# Altium footprint library 0533980667.PcbLib: 1 footprints
Each footprint in its own frame and in the unit in brackets; x right, y up, seen from the top. Pads: shape width x height; smd on the part's side, far side on the other; paste and mask are expansions set on the pad; w line width, h text height; cw(c..) or ccw(c..) is an arc to the next point about the centre after c.
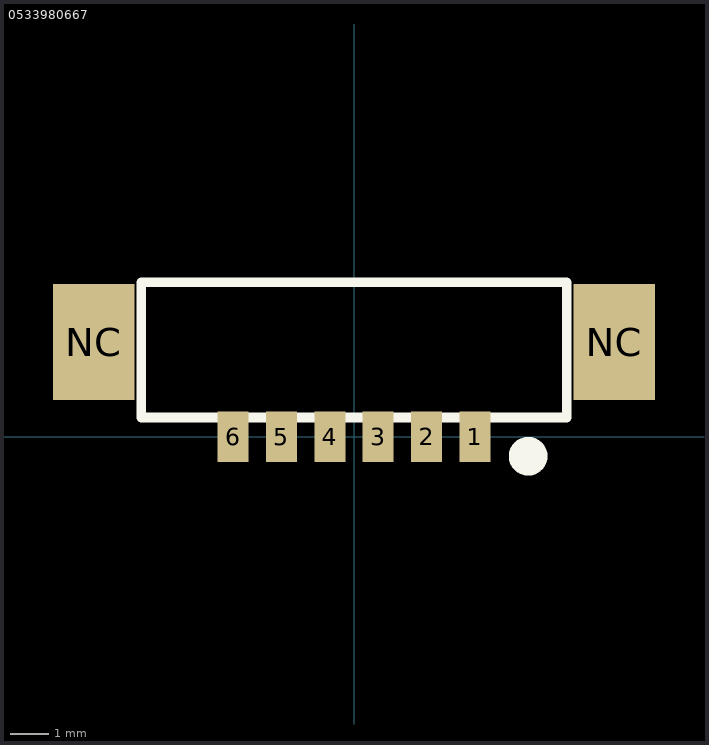
[diagram p0: the footprint, top view; thin cyan lines are the x and y axes]

## 0533980667 [mm]
pads (8):
  rect 0.8x1.3 smd: 1(3.125,0) 2(1.875,0) 3(0.625,0) 4(-0.625,0) 5(-1.875,0) 6(-3.125,0)
  rect 2.1x3 smd: NC(-6.725,2.45) NC(6.725,2.45)
Top Overlay:
  circle w0.5: c4.5,-0.5 r0.25
  lines w0.25: -5.5,0.5 -5.5,4 5.5,4 5.5,0.5 -5.5,0.5